# Altium schematic symbol library DRV8304HRHAT.SchLib: 2 symbols
Pins are listed as number, name and electrical type; pins without a type are passive.

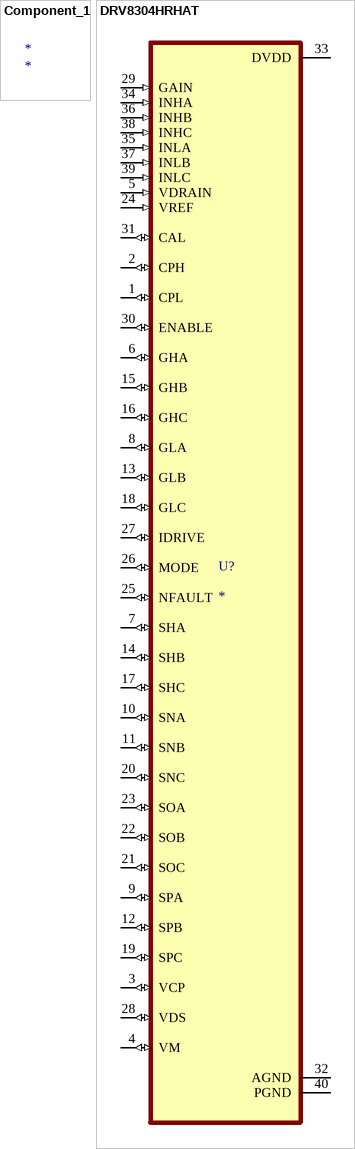
[diagram p0: symbols Component_1 to DRV8304HRHAT]

## Component_1
designator *

## DRV8304HRHAT
designator U?
MF: {'manufacturer': u'Texas Instruments'}; MP: DRV8304HRHAT; Package: None; Value: *; Availability: Unavailable; Price: None
footprint QFN50P600X600X100-41N
pins: 1 CPL (io), 2 CPH (io), 3 VCP (io), 4 VM (io), 5 VDRAIN (in), 6 GHA (io), 7 SHA (io), 8 GLA (io), 9 SPA (io), 10 SNA (io), 11 SNB (io), 12 SPB (io), 13 GLB (io), 14 SHB (io), 15 GHB (io), 16 GHC (io), 17 SHC (io), 18 GLC (io), 19 SPC (io), 20 SNC (io), 21 SOC (io), 22 SOB (io), 23 SOA (io), 24 VREF (in), 25 NFAULT (io), 26 MODE (io), 27 IDRIVE (io), 28 VDS (io), 29 GAIN (in), 30 ENABLE (io), 31 CAL (io), 32 AGND (power), 33 DVDD (power), 34 INHA (in), 35 INLA (in), 36 INHB (in), 37 INLB (in), 38 INHC (in), 39 INLC (in), 40 PGND (power)